# EAGLE library part AVR32UC3A (library avr32uc)
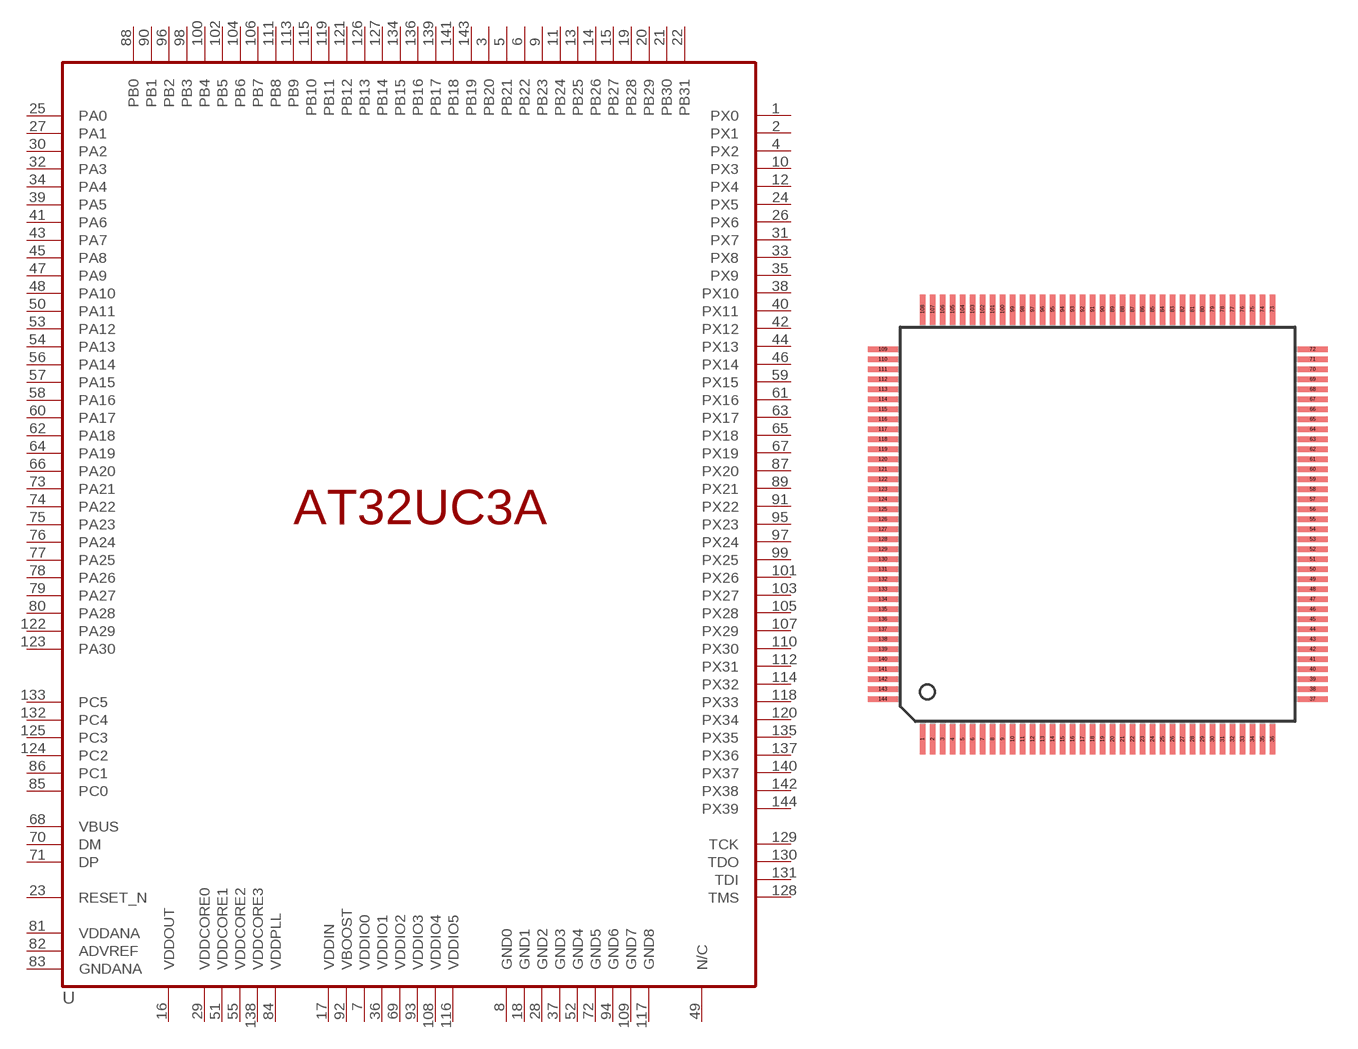
[diagram p0: symbol with the pads of VQFP144; footprint VQFP144]

Designator prefix -

## AVR32UC3AVQFP144  [VQFP144]
1  PX0
2  PX1
3  PB20
4  PX2
5  PB21
6  PB22
7  VDDIO0
8  GND0
9  PB23
10  PX3
11  PB24
12  PX4
13  PB25
14  PB26
15  PB27
16  VDDOUT
17  VDDIN
18  GND1
19  PB28
20  PB29
21  PB30
22  PB31
23  RESET_N
24  PX5
25  PA0
26  PX6
27  PA1
28  GND2
29  VDDCORE0
30  PA2
31  PX7
32  PA3
33  PX8
34  PA4
35  PX9
36  VDDIO1
37  GND3
38  PX10
39  PA5
40  PX11
41  PA6
42  PX12
43  PA7
44  PX13
45  PA8
46  PX14
47  PA9
48  PA10
49  N/C
50  PA11
51  VDDCORE1
52  GND4
53  PA12
54  PA13
55  VDDCORE2
56  PA14
57  PA15
58  PA16
59  PX15
60  PA17
61  PX16
62  PA18
63  PX17
64  PA19
65  PX18
66  PA20
67  PX19
68  VBUS
69  VDDIO2
70  DM
71  DP
72  GND5
73  PA21
74  PA22
75  PA23
76  PA24
77  PA25
78  PA26
79  PA27
80  PA28
81  VDDANA
82  ADVREF
83  GNDANA
84  VDDPLL
85  PC0
86  PC1
87  PX20
88  PB0
89  PX21
90  PB1
91  PX22
92  VBOOST
93  VDDIO3
94  GND6
95  PX23
96  PB2
97  PX24
98  PB3
99  PX25
100  PB4
101  PX26
102  PB5
103  PX27
104  PB6
105  PX28
106  PB7
107  PX29
108  VDDIO4
109  GND7
110  PX30
111  PB8
112  PX31
113  PB9
114  PX32
115  PB10
116  VDDIO5
117  GND8
118  PX33
119  PB11
120  PX34
121  PB12
122  PA29
123  PA30
124  PC2
125  PC3
126  PB13
127  PB14
128  TMS
129  TCK
130  TDO
131  TDI
132  PC4
133  PC5
134  PB15
135  PX35
136  PB16
137  PX36
138  VDDCORE3
139  PB17
140  PX37
141  PB18
142  PX38
143  PB19
144  PX39

## Footprint VQFP144 (pad centres in mm)
smd 0.27 x 1.5: 1 -8.75,-12.02; 2 -8.25,-12.02; 3 -7.75,-12.02; 4 -7.25,-12.02; 5 -6.75,-12.02; 6 -6.25,-12.02; 7 -5.75,-12.02; 8 -5.25,-12.02; 9 -4.75,-12.02; 10 -4.25,-12.02; 11 -3.75,-12.02; 12 -3.25,-12.02; 13 -2.75,-12.02; 14 -2.25,-12.02; 15 -1.75,-12.02; 16 -1.25,-12.02; 17 -0.75,-12.02; 18 -0.25,-12.02; 19 0.25,-12.02; 20 0.75,-12.02; 21 1.25,-12.02; 22 1.75,-12.02; 23 2.25,-12.02; 24 2.75,-12.02; 25 3.25,-12.02; 26 3.75,-12.02; 27 4.25,-12.02; 28 4.75,-12.02; 29 5.25,-12.02; 30 5.75,-12.02; 31 6.25,-12.02; 32 6.75,-12.02; 33 7.25,-12.02; 34 7.75,-12.02; 35 8.25,-12.02; 36 8.75,-12.02; 73 8.75,9.48; 74 8.25,9.48; 75 7.75,9.48; 76 7.25,9.48; 77 6.75,9.48; 78 6.25,9.48; 79 5.75,9.48; 80 5.25,9.48; 81 4.75,9.48; 82 4.25,9.48; 83 3.75,9.48; 84 3.25,9.48; 85 2.75,9.48; 86 2.25,9.48; 87 1.75,9.48; 88 1.25,9.48; 89 0.75,9.48; 90 0.25,9.48; 91 -0.25,9.48; 92 -0.75,9.48; 93 -1.25,9.48; 94 -1.75,9.48; 95 -2.25,9.48; 96 -2.75,9.48; 97 -3.25,9.48; 98 -3.75,9.48; 99 -4.25,9.48; 100 -4.75,9.48; 101 -5.25,9.48; 102 -5.75,9.48; 103 -6.25,9.48; 104 -6.75,9.48; 105 -7.25,9.48; 106 -7.75,9.48; 107 -8.25,9.48; 108 -8.75,9.48
smd 1.5 x 0.27: 37 10.75,-10.02; 38 10.75,-9.52; 39 10.75,-9.02; 40 10.75,-8.52; 41 10.75,-8.02; 42 10.75,-7.52; 43 10.75,-7.02; 44 10.75,-6.52; 45 10.75,-6.02; 46 10.75,-5.52; 47 10.75,-5.02; 48 10.75,-4.52; 49 10.75,-4.02; 50 10.75,-3.52; 51 10.75,-3.02; 52 10.75,-2.52; 53 10.75,-2.02; 54 10.75,-1.52; 55 10.75,-1.02; 56 10.75,-0.52; 57 10.75,-0.02; 58 10.75,0.48; 59 10.75,0.98; 60 10.75,1.48; 61 10.75,1.98; 62 10.75,2.48; 63 10.75,2.98; 64 10.75,3.48; 65 10.75,3.98; 66 10.75,4.48; 67 10.75,4.98; 68 10.75,5.48; 69 10.75,5.98; 70 10.75,6.48; 71 10.75,6.98; 72 10.75,7.48; 109 -10.75,7.48; 110 -10.75,6.98; 111 -10.75,6.48; 112 -10.75,5.98; 113 -10.75,5.48; 114 -10.75,4.98; 115 -10.75,4.48; 116 -10.75,3.98; 117 -10.75,3.48; 118 -10.75,2.98; 119 -10.75,2.48; 120 -10.75,1.98; 121 -10.75,1.48; 122 -10.75,0.98; 123 -10.75,0.48; 124 -10.75,-0.02; 125 -10.75,-0.52; 126 -10.75,-1.02; 127 -10.75,-1.52; 128 -10.75,-2.02; 129 -10.75,-2.52; 130 -10.75,-3.02; 131 -10.75,-3.52; 132 -10.75,-4.02; 133 -10.75,-4.52; 134 -10.75,-5.02; 135 -10.75,-5.52; 136 -10.75,-6.02; 137 -10.75,-6.52; 138 -10.75,-7.02; 139 -10.75,-7.52; 140 -10.75,-8.02; 141 -10.75,-8.52; 142 -10.75,-9.02; 143 -10.75,-9.52; 144 -10.75,-10.02